# Altium footprint library Stabilizers.PcbLib: 5 footprints
Each footprint in its own frame and in the unit in brackets; x right, y up, seen from the top. Pads: shape width x height; smd on the part's side, far side on the other; paste and mask are expansions set on the pad; w line width, h text height; cw(c..) or ccw(c..) is an arc to the next point about the centre after c.
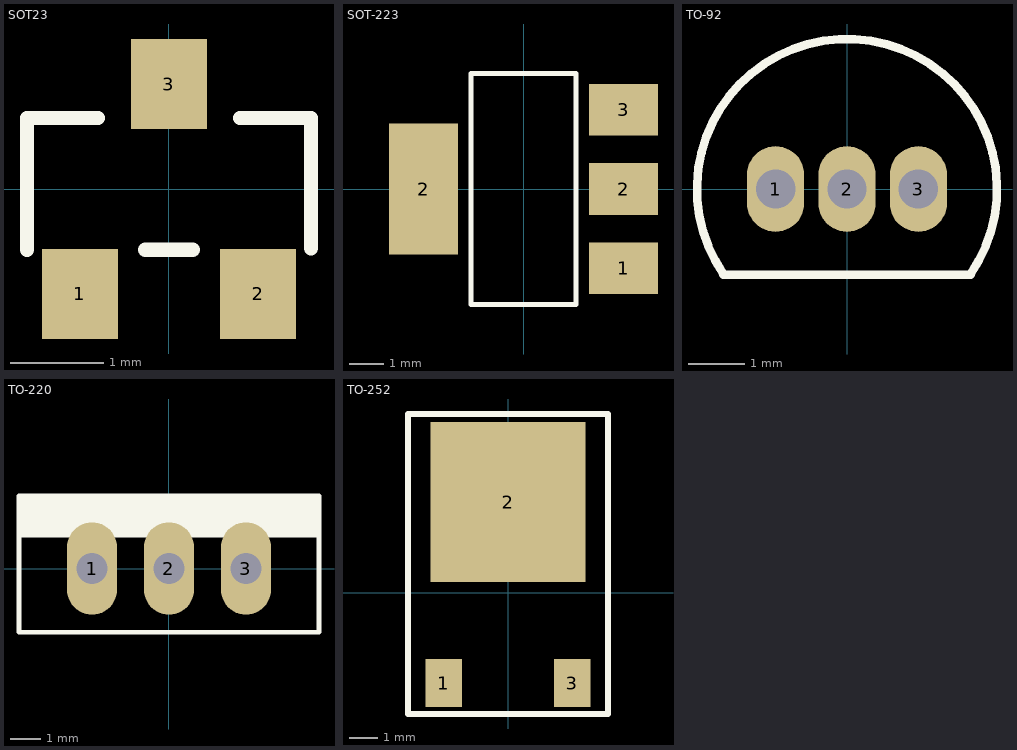
[diagram p0: the footprints below, top view; thin cyan lines are the x and y axes]

## SOT23 [mil]
pads (3):
  rect 32x38 smd: 1(-37.6,-44.33) 2(37.6,-44.33) 3(0,44.33)
Top Overlay:
  lines w6: -60,-25.67 -60,30 -30,30 ; -10,-25.67 10,-25.67 ; 30,30 60,30 60,-25
3D body: height 40.16, standoff 0, extent -57.48,-49.21 57.49,48.28

## SOT-223 [mm]
pads (4):
  rect 2x1.5 smd: 1(2.9,-2.3) 2(2.9,0) 3(2.9,2.3)
  rect 2x3.8 smd: 2(-2.9,0)
Top Overlay:
  lines w0.152: -1.524,-3.35 -1.524,3.35 1.524,3.35 1.524,1.421 1.524,-1.421 1.524,-3.35 -1.524,-3.35
3D body: height 1.69, standoff 0.04, extent -3.5,-3.25 3.5,3.25

## TO-92 [mil] "TO-92 BEND LEAD"
pads (3):
  oval 40x60 hole 27.56: 1(-50,0) 2(0,0) 3(50,0)
Top Overlay:
  lines w6: -86.44,-60 86.44,-60 ; -86.44,-59.61 cw(c0,0) 86.44,-59.61
3D body: height 393.7, standoff -118.11, extent -102.87,-62.61 102.88,102.88

## TO-220 [mil]
pads (3):
  oval 65x120 hole 40: 1(-100,0) 2(0,0) 3(100,0)
Top Overlay:
  region: 194.88,94.49 -194.88,94.49 -194.88,43.31 194.88,43.31
  lines w6: -194.88,43.31 194.88,43.31 ; -194.88,-82.68 194.88,-82.68 194.88,94.49 -194.88,94.49 -194.88,-82.68
3D body: height 897.64, standoff -235.43, extent -194.88,-82.68 194.88,94.49

## TO-252 [mm]
pads (3):
  rect 1.3x1.7 smd: 1(-2.285,-3.22) 3(2.285,-3.22)
  rect 5.5x5.7 smd: 2(0,3.22)
Top Overlay:
  lines w0.2: -3.556,-4.318 -3.556,6.35 -3.302,6.35 3.556,6.35 3.556,-4.318 -3.302,-4.318 ; -3.556,-4.318 -3.302,-4.318 ; -3.556,-4.318 -3.302,-4.318
3D body: height 2.3, standoff 0, extent -3.29,-3.949 3.29,5.751